# Altium schematic symbol library 2510_2P.SchLib: 1 symbol
Pins are listed as number, name and electrical type; pins without a type are passive.

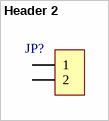
[diagram p0: symbol Header 2]

## Header 2
designator JP?, comment HDR-1X2  (value not drawn)
2P接插件; 淘宝ID: 小糖豆的小窝窝; BOM名称: 2P接插件; 下单链接: https://item.taobao.com/item.htm?ft=t&id=613637044352
footprint KF2510-LI-2P (接插件/2A)
pins: 1, 2